# EAGLE library part SI4403DDY-T1-GE3 (library custom_library)
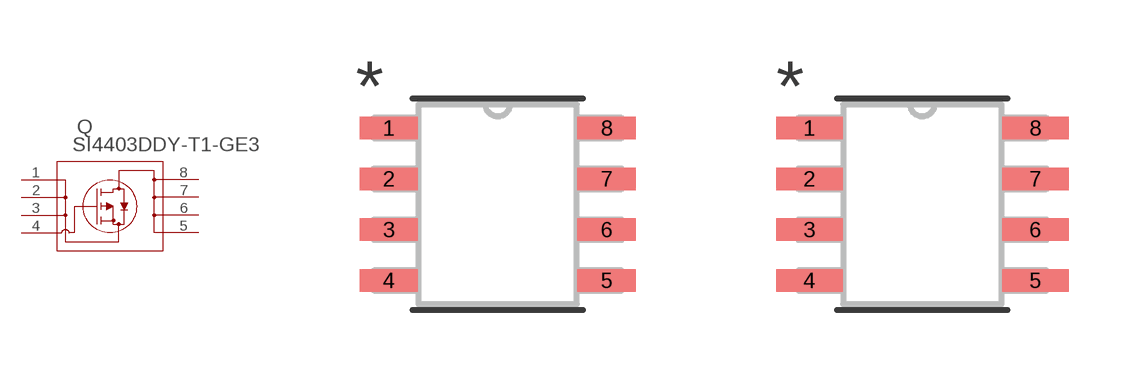
[diagram p2: symbol with the pads of SO-8_MS-012_VIS; footprints SO-8_MS-012_VIS, SO-8_MS-012_VIS-M]

Designator prefix Q

## SI4403DDY-T1-GE3 (COPYRIGHT: Copyright (C) 2024 Ultra Librarian. All rights reserved.; MANUFACTURER_PART_NUMBER: SI4403DDY-T1-GE3; MFR_NAME: Vishay; TYPE: Transistors)  [SO-8_MS-012_VIS]
1  1  pas
2  2  pas
3  3  pas
4  4  pas
5  5  pas
6  6  pas
7  7  pas
8  8  pas

## SI4403DDY-T1-GE3SO-8_MS-012_VIS-M (COPYRIGHT: Copyright (C) 2024 Ultra Librarian. All rights reserved.; MANUFACTURER_PART_NUMBER: SI4403DDY-T1-GE3; MFR_NAME: Vishay; TYPE: Transistors)  [SO-8_MS-012_VIS-M]
Pads as for SO-8_MS-012_VIS

## SI4403DDY-T1-GE3SO-8_MS-012_VIS-L (COPYRIGHT: Copyright (C) 2024 Ultra Librarian. All rights reserved.; MANUFACTURER_PART_NUMBER: SI4403DDY-T1-GE3; MFR_NAME: Vishay; TYPE: Transistors)  [SO-8_MS-012_VIS-L]
Pads as for SO-8_MS-012_VIS

## Footprint SO-8_MS-012_VIS (pad centres in mm)
smd 1.46 x 0.559: 1 -2.724,1.905; 2 -2.724,0.635; 3 -2.724,-0.635; 4 -2.724,-1.905; 5 2.724,-1.905; 6 2.724,-0.635; 7 2.724,0.635; 8 2.724,1.905

## Footprint SO-8_MS-012_VIS-M (pad centres in mm)
smd 1.664 x 0.559: 1 -2.826,1.905; 2 -2.826,0.635; 3 -2.826,-0.635; 4 -2.826,-1.905; 5 2.826,-1.905; 6 2.826,-0.635; 7 2.826,0.635; 8 2.826,1.905

## Footprint SO-8_MS-012_VIS-L (pad centres in mm)
smd 1.257 x 0.508: 1 -2.623,1.905; 2 -2.623,0.635; 3 -2.623,-0.635; 4 -2.623,-1.905; 5 2.623,-1.905; 6 2.623,-0.635; 7 2.623,0.635; 8 2.623,1.905